# Altium integrated library IPL1-102-01-X-S-K(USES).IntLib: 1 symbol
Pins are listed as number, name and electrical type; pins without a type are passive.

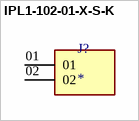
[diagram p0: symbol IPL1-102-01-X-S-K]

## IPL1-102-01-X-S-K
designator J?
IPL1 - Samtec Mini MateÂ® 2.54mm Pitch Through Hole Power Header; MF: Samtec Inc.; MP: IPL1-102-01-F-S-K; Value: *; Purchase-URL: https://pricing.snapeda.com/search/part/IPL1-102-01-F-S-K/?ref=eda; Price: None; Check_prices: https://www.snapeda.com/parts/IPL1-102-01-F-S-K/Samtec/view-part/4667859/?ref=eda; SnapEDA_Link: https://www.snapeda.com/parts/IPL1-102-01-F-S-K/Samtec/view-part/4667859/?ref=snap; Availability: In Stock; Package: None
footprint SAMTEC_IPL1-102-01-X-S-K
pins: 01, 02